# Altium schematic symbol library SchematicLib.SchLib: 18 symbols
Pins are listed as number, name and electrical type; pins without a type are passive.

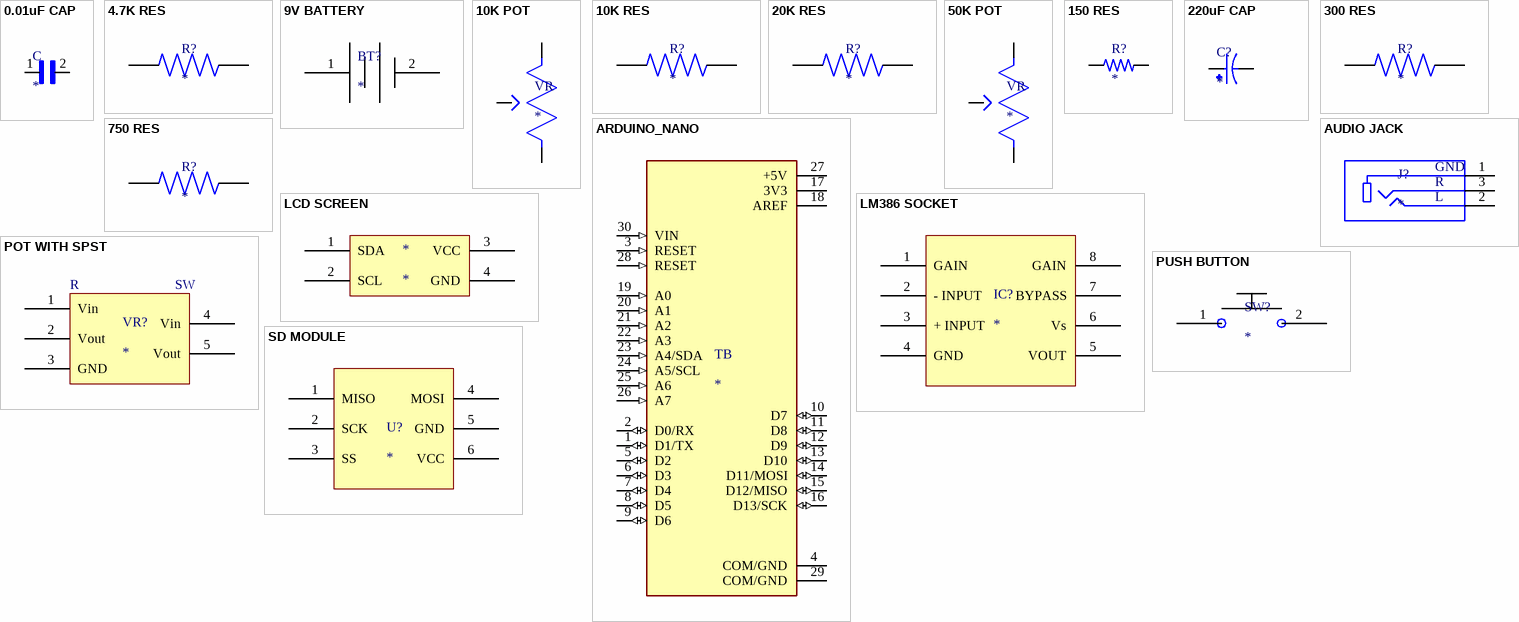
[diagram p0: symbols 0.01uF CAP to SD MODULE]

## 0.01uF CAP
designator C
Lead Capacitor E(JIS) with Capacitance: 1000pF and Rated Voltage: 400Vac(r.m.s.); MP: DE2E3SA102MN3AY02F; MF: Murata; Package: Radial Murata; SnapEDA_Link: https://www.snapeda.com/parts/DE2E3SA102MN3AY02F/Murata/view-part/4546572/?ref=snap; Digi-Key_Part_Number: 490-16237-1-ND; Mouser-Purchase-URL: https://snapeda.com/shop?store=Mouser&id=4546572; Value: *
footprint 10uF CAP
pins: 1, 2

## 4.7K RES
designator R?
MP: RMCF1206FT4K70; Package: None; Price: None; Value: *; Availability: Unavailable
footprint 4.7K RES
pins: 1, 2

## 9V BATTERY
designator BT?
footprint 9V Battery; pin to pad 12>1 13>2
pins: 1 (power), 2 (power)

## 10K POT
designator VR
POT 10K OHM 1/10W PLASTIC LOG; MF: TT Electronics/BI; MP: P160KN-0QC15B500K; Value: *; Digi-Key_Part_Number: 987-1304-ND; Package: None; Digi-Key_Purchase_URL: https://www.digikey.cz/product-detail/en/tt-electronics-bi/P160KN-0QC15B500K/987-1304-ND/2408881?utm_source=snapeda&utm_medium=aggregator&utm_campaign=symbol; SnapEDA_Link: https://www.snapeda.com/parts/P160KN-0QC15B500K/TT%20Electronics/BI/view-part/903272/?ref=snap
footprint 10K POT
pins: 1 (io), 2 (io), 3 (io)

## 10K RES
designator R?
10 kOhms Â±1% 0.25W, 1/4W Chip Resistor 1206 (3216 Metric) Automotive AEC-Q200 Thick Film; MP: RMCF1206FT10K0; MF: Stackpole Electronics Inc; Purchase-URL: https://pricing.snapeda.com/search/part/RMCF1206FT10K0/?ref=eda; SnapEDA_Link: https://www.snapeda.com/parts/RMCF1206FT10K0/Stackpole%20Electronics%20Inc/view-part/3955491/?ref=snap; Package: 3216 Stackpole; Check_prices: https://www.snapeda.com/parts/RMCF1206FT10K0/Stackpole%20Electronics%20Inc/view-part/3955491/?ref=eda; Digi-Key_Part_Number: RMCF1206FT10K0CT-ND; Value: *
footprint 10K RES
pins: 1, 2

## 20K RES
designator R?
MP: RMCF1206JT20K0; Package: None; Price: None; Value: *; Availability: Unavailable
footprint 20K RES
pins: 1, 2

## 50K POT
designator VR
POT 50K OHM 1/5W PLASTIC LINEAR; MF: TT Electronics/BI; MP: P160KN-0QC15B500K; Value: *; Digi-Key_Part_Number: 987-1304-ND; Package: None; Digi-Key_Purchase_URL: https://www.digikey.cz/product-detail/en/tt-electronics-bi/P160KN-0QC15B500K/987-1304-ND/2408881?utm_source=snapeda&utm_medium=aggregator&utm_campaign=symbol; SnapEDA_Link: https://www.snapeda.com/parts/P160KN-0QC15B500K/TT%20Electronics/BI/view-part/903272/?ref=snap
footprint 50K POT
pins: 1 (io), 2 (io), 3 (io)

## 150 RES
designator R?
Through Hole Carbon Film Resistor, Cfr Series, 150 Ohm, 500 Mw, - 5%, 350 V, Axial Leaded; MF: TE Connectivity; MP: CFR50J150R; Availability: Good; Value: *; Package: Axial TE Connectivity; SnapEDA_Link: https://www.snapeda.com/parts/CFR50J150R/TE%20Connectivity/view-part/2667839/?ref=snap; Price: None; Check_prices: https://www.snapeda.com/parts/CFR50J150R/TE%20Connectivity/view-part/2667839/?ref=eda; Purchase-URL: https://pricing.snapeda.com/search/part/CFR50J150R/?ref=eda
footprint 150 RES
pins: 1, 2

## 220uF CAP
designator C?
33ÂµF 250V Aluminum Electrolytic Capacitors Radial, Can 5000 Hrs @ 105Â°C; MP: UPM2E330MHD1TN; MF: Nichicon; Price: None; Availability: Warning; Package: Radial Nichicon; SnapEDA_Link: https://www.snapeda.com/parts/UPM2E330MHD1TN/Nichicon/view-part/2353634/?ref=snap; Check_prices: https://www.snapeda.com/parts/UPM2E330MHD1TN/Nichicon/view-part/2353634/?ref=eda; Value: *; Purchase-URL: https://pricing.snapeda.com/search/part/UPM2E330MHD1TN/?ref=eda
footprint 220uF CAP
pins: N, P

## 300 RES
designator R?
CRCW Series 1206 0.25 W 300 Ohm Â±5 % Â±200 ppm/K SMT Thick Film Chip Resistor; MP: CRCW1206300RJNEA; Package: None; Price: None; Value: *; Availability: Unavailable
footprint 300 RES
pins: 1, 2

## 750 RES
designator R?
RES SMD 750 OHM 1% 1/4W 1206; MP: CRCW1206750RFKEA; Package: None; Price: None; Value: *; Availability: Unavailable
footprint 750 RES
pins: 1, 2

## ARDUINO_NANO
designator TB
ATSAMD21G18A Arduino Nano 33 IoT SAM D ARMÂ® CortexÂ®-M0+ MCU 32-Bit Embedded Evaluation Board; MP: ARDUINO NANO; Package: None; Price: None; Availability: Unavailable; Value: *; MF: Arduino; SnapEDA_Link: https://www.snapeda.com/parts/ARDUINO%20NANO/Arduino/view-part/1128261/?ref=snap
footprint SHIELD_ARDUINO_NANO
pins: 1 D1/TX (io), 2 D0/RX (io), 3 RESET (in), 4 COM/GND (power), 5 D2 (io), 6 D3 (io), 7 D4 (io), 8 D5 (io), 9 D6 (io), 10 D7 (io), 11 D8 (io), 12 D9 (io), 13 D10 (io), 14 D11/MOSI (io), 15 D12/MISO (io), 16 D13/SCK (io), 17 3V3 (power), 18 AREF (power), 19 A0 (in), 20 A1 (in), 21 A2 (in), 22 A3 (in), 23 A4/SDA (in), 24 A5/SCL (in), 25 A6 (in), 26 A7 (in), 27 +5V (power), 28 RESET (in), 29 COM/GND (power), 30 VIN (in)

## AUDIO JACK
designator J?
3.5 mm, Stereo, Right Angle, Through Hole, Audio Jack Connector; MF: CUI Devices; MP: SJ1-3533N; Value: *; SnapEDA_Link: https://www.snapeda.com/parts/SJ1-3533N/CUI%20Devices/view-part/554489/?ref=snap; Price: None; Availability: Unavailable; CUI_purchase_URL: https://www.cuidevices.com/product/interconnect/connectors/audio-connectors/jacks/sj1-353xn-series?utm_source=snapeda.com&utm_medium=referral&utm_campaign=snapedaBOM; Package: None
footprint AUDIO JACK
pins: 1, 2, 3
text: GND; R; L

## LCD SCREEN
designator *
footprint LCD SCREEN
pins: 1 SDA, 2 SCL, 3 VCC, 4 GND

## LM386 SOCKET
designator IC?
8 pin IC socket for LM386
footprint LM386 SOCKET (8 pin socket for LM386)
pins: 1 GAIN, 2 - INPUT, 3 + INPUT, 4 GND (power), 5 VOUT, 6 Vs (power), 7 BYPASS, 8 GAIN

## POT WITH SPST
designator VR?
Potentiometer with SPST Switch
footprint POT WITH SPST
pins: 1 Vin, 2 Vout, 3 GND (power), 4 Vin, 5 Vout
text: R; SW

## PUSH BUTTON
designator SW?
Push Button
footprint Push Button
pins: 1, 2

## SD MODULE
designator U?
footprint SD MODULE
pins: 1 MISO, 2 SCK, 3 SS, 4 MOSI, 5 GND, 6 VCC